# Altium footprint library DIN41612.PcbLib: 2 footprints
Each footprint in its own frame and in the unit in brackets; x right, y up, seen from the top. Pads: shape width x height; smd on the part's side, far side on the other; paste and mask are expansions set on the pad; w line width, h text height; cw(c..) or ccw(c..) is an arc to the next point about the centre after c.
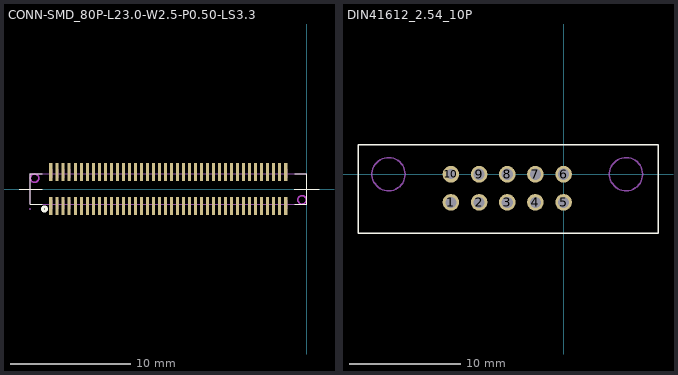
[diagram p0: the footprints below, top view; thin cyan lines are the x and y axes]

## CONN-SMD_80P-L23.0-W2.5-P0.50-LS3.3 [mm]
pads (80):
  rect 0.3x1.5 smd paste+0 mask+0.05: 1(-21.275,-1.425) 2(-21.275,1.425) 79(-1.725,-1.425) 80(-1.725,1.425)
  rect 0.25x1.5 smd paste+0 mask+0.05: 3(-20.75,-1.425) 4(-20.75,1.425) 5(-20.25,-1.425) 6(-20.25,1.425) 7(-19.75,-1.425) 8(-19.75,1.425) 9(-19.25,-1.425) 10(-19.25,1.425) 11(-18.75,-1.425) 12(-18.75,1.425) 13(-18.25,-1.425) 14(-18.25,1.425) 15(-17.75,-1.425) 16(-17.75,1.425) 17(-17.25,-1.425) 18(-17.25,1.425) 19(-16.75,-1.425) 20(-16.75,1.425) 21(-16.25,-1.425) 22(-16.25,1.425) 23(-15.75,-1.425) 24(-15.75,1.425) 25(-15.25,-1.425) 26(-15.25,1.425) 27(-14.75,-1.425) 28(-14.75,1.425) 29(-14.25,-1.425) 30(-14.25,1.425) 31(-13.75,-1.425) 32(-13.75,1.425) 33(-13.25,-1.425) 34(-13.25,1.425) 35(-12.75,-1.425) 36(-12.75,1.425) 37(-12.25,-1.425) 38(-12.25,1.425) 39(-11.75,-1.425) 40(-11.75,1.425) 41(-11.25,-1.425) 42(-11.25,1.425) 43(-10.75,-1.425) 44(-10.75,1.425) 45(-10.25,-1.425) 46(-10.25,1.425) 47(-9.75,-1.425) 48(-9.75,1.425) 49(-9.25,-1.425) 50(-9.25,1.425) 51(-8.75,-1.425) 52(-8.75,1.425) 53(-8.25,-1.425) 54(-8.25,1.425) 55(-7.75,-1.425) 56(-7.75,1.425) 57(-7.25,-1.425) 58(-7.25,1.425) 59(-6.75,-1.425) 60(-6.75,1.425) 61(-6.25,-1.425) 62(-6.25,1.425) 63(-5.75,-1.425) 64(-5.75,1.425) 65(-5.25,-1.425) 66(-5.25,1.425) 67(-4.75,-1.425) 68(-4.75,1.425) 69(-4.25,-1.425) 70(-4.25,1.425) 71(-3.75,-1.425) 72(-3.75,1.425) 73(-3.25,-1.425) 74(-3.25,1.425) 75(-2.75,-1.425) 76(-2.75,1.425) 77(-2.25,-1.425) 78(-2.25,1.425)
Top Overlay:
  circle w0.254: c-21.81,-1.66 r0.168
  lines w0.1: -23.932,0 -21.984,0 ; -22,-1.25 -23,-1.25 -23,1.25 -22,1.25 ; -1.008,0 0,0 1.037,0 ; -1,-1.25 0,-1.25 0,1.25 -1,1.25
Keep-Out Layer:
  circle w0.127: c-22.635,0.9 r0.35
  circle w0.127: c-0.375,-0.903 r0.35
Mechanical 1:
  circle w0.127: c-0.375,-0.903 r0.35
  circle w0.127: c-22.635,0.9 r0.35
Mechanical 15:
  drawing of 85 lines, arcs and shapes, not listed

## DIN41612_2.54_10P [mm]
pads (10):
  round 1.5 hole 1: 1(-10.16,-2.54) 2(-7.62,-2.54) 3(-5.08,-2.54) 4(-2.54,-2.54) 5(0,-2.54) 6(0,0) 7(-2.54,0) 8(-5.08,0) 9(-7.62,0)
  round 1.5 hole 0.9: 10(-10.16,0)
Top Overlay:
  lines w0.127: -18.542,-5.334 -18.542,2.666 8.518,2.666 8.518,-5.334 -18.542,-5.334
Mechanical 1:
  circle w0.127: c5.63,0 r1.5
  circle w0.127: c-15.79,0 r1.5